# Altium footprint library Supernova Resistors.PcbLib: 45 footprints (part 1 of 3)
Each footprint in its own frame and in the unit in brackets; x right, y up, seen from the top. Pads: shape width x height; smd on the part's side, far side on the other; paste and mask are expansions set on the pad; w line width, h text height; cw(c..) or ccw(c..) is an arc to the next point about the centre after c.
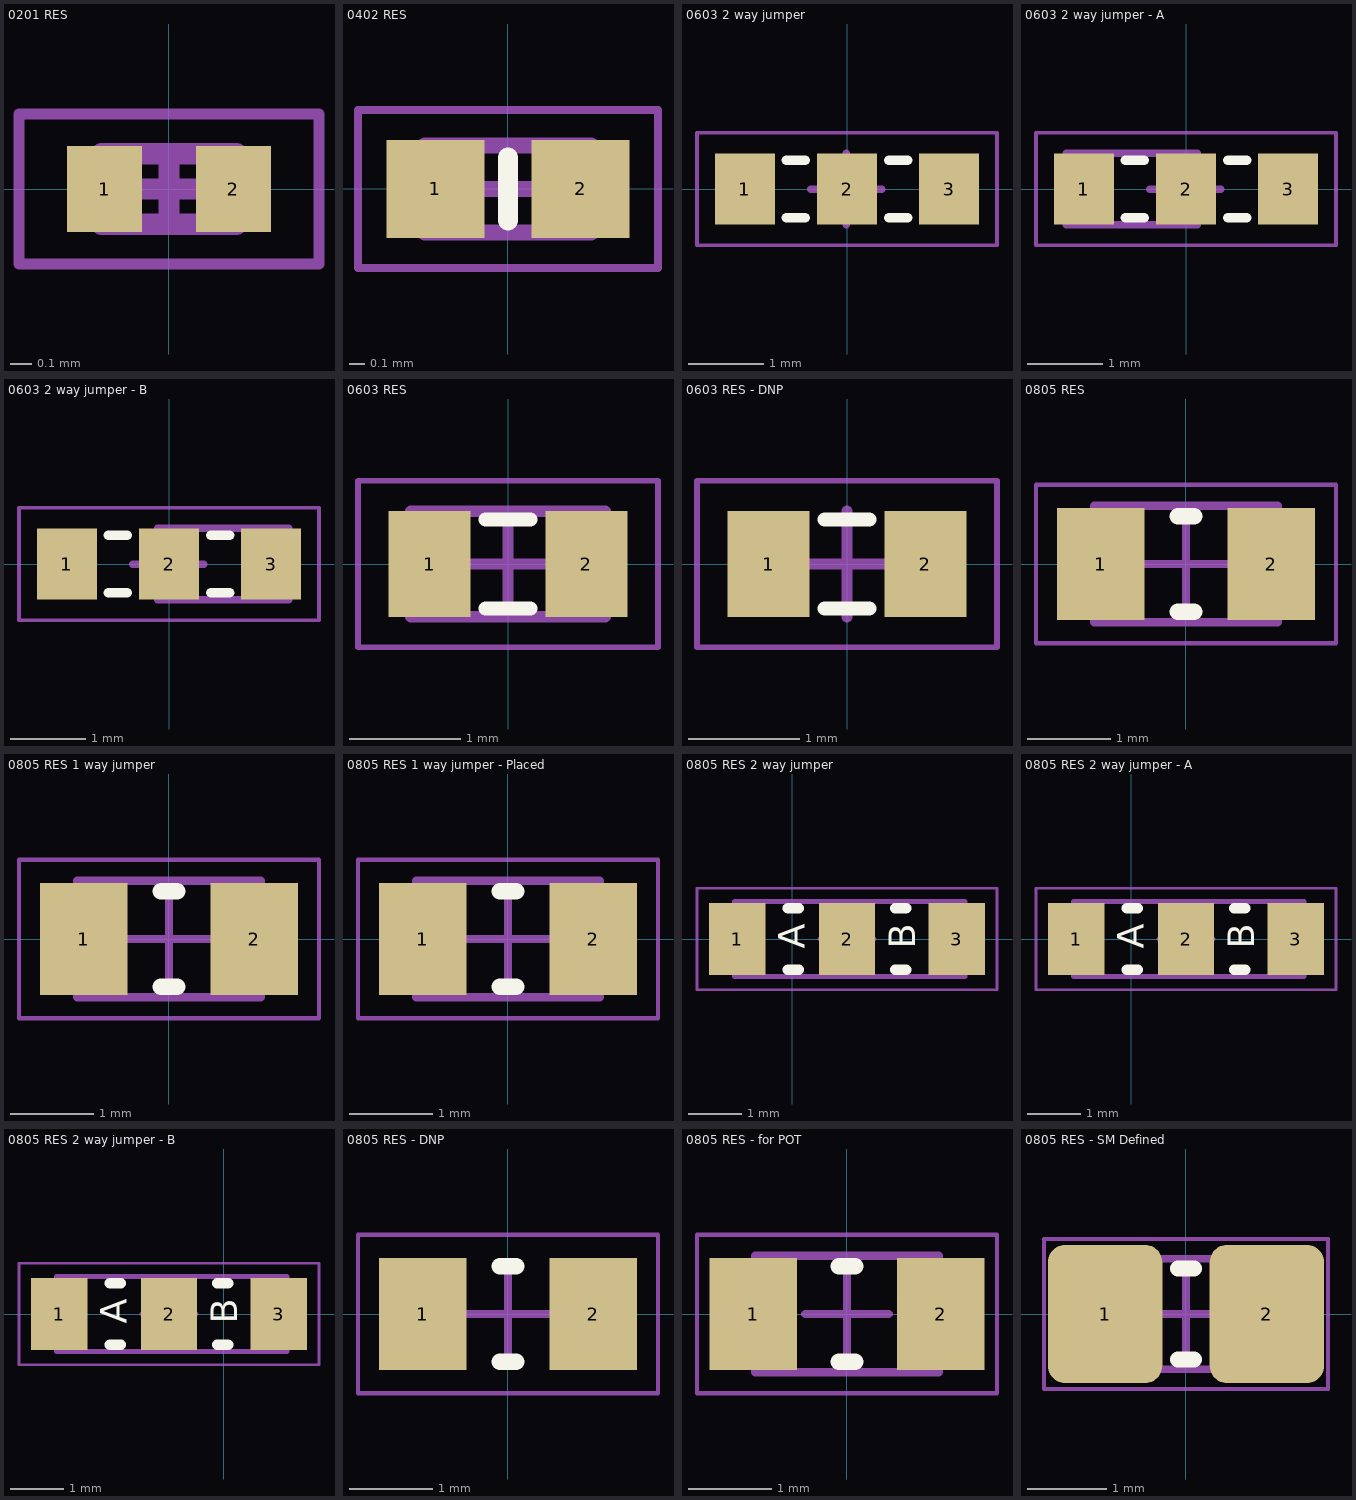
[diagram p0: the footprints below, top view; thin cyan lines are the x and y axes]

## 0201 RES [mm] "Chip Resistor, 2-Leads, Body 0.60x0.30mm, IPC Medium Density"
height 0.26
pads (2):
  rect 0.35x0.4 smd mask+0.025: 1(-0.3,0) 2(0.3,0)
Top 3D Body:
  lines w0.1: -0.315,-0.165 -0.315,0.165 0.315,0.165 0.315,-0.165 -0.315,-0.165
Top Courtyard (Mech15):
  lines w0.05: -0.7,-0.35 -0.7,0.35 0.7,0.35 0.7,-0.35 -0.7,-0.35
  lines w0.1: -0.165,0 0.165,0 ; 0,-0.165 0,0.165
3D body: height 0.26, standoff 0, extent -0.165,-0.165 0.165,0.165
3D body: height 0.26, standoff 0, extent -0.315,-0.165 -0.165,0.165
3D body: height 0.26, standoff 0, extent 0.165,-0.165 0.315,0.165

## 0402 RES [mm] "Chip Capacitor, 2-Leads, Body 1.00x0.50mm, IPC Medium Density"
height 0.55
pads (2):
  rect 0.62x0.62 smd mask+0.051: 1(-0.46,0) 2(0.46,0)
Top Overlay:
  lines w0.127: 0,-0.2 0,0.2
Top 3D Body:
  lines w0.1: -0.525,-0.275 -0.525,0.275 0.525,0.275 0.525,-0.275 -0.525,-0.275
Top Courtyard (Mech15):
  lines w0.05: -0.95,-0.5 -0.95,0.5 0.95,0.5 0.95,-0.5 -0.95,-0.5
  lines w0.1: -0.275,0 0.275,0 ; 0,-0.275 0,0.275
3D body: height 0.4, standoff 0, extent -0.525,-0.275 -0.295,0.275
3D body: height 0.4, standoff 0, extent 0.295,-0.275 0.525,0.275
3D body: height 0.4, standoff 0, extent -0.295,-0.275 0.295,0.275

## 0603 2 way jumper [mm] "Chip Resistor, 2-Leads, Body 1.60x0.85mm, IPC Medium Density"
height 0.55
pads (3):
  rect 0.8x0.95 smd paste-1: 1(-1.36,0) 2(0,0) 3(1.36,0)
Top Overlay:
  lines w0.127: -0.813,-0.381 -0.559,-0.381 ; -0.813,0.381 -0.559,0.381 ; 0.559,-0.381 0.813,-0.381 ; 0.559,0.381 0.813,0.381
Top Courtyard (Mech15):
  lines w0.05: -2,-0.75 2,-0.75 2,0.75 -2,0.75 -2,-0.75
  lines w0.1: -0.485,0 0.465,0 ; -0.01,-0.475 -0.01,0.475

## 0603 2 way jumper - A [mm] "Chip Resistor, 2-Leads, Body 1.60x0.85mm, IPC Medium Density"
height 0.55
pads (3):
  rect 0.8x0.95 smd: 1(-1.36,0) 2(0,0)
  rect 0.8x0.95 smd paste-1: 3(1.36,0)
Top Overlay:
  lines w0.127: -0.813,-0.381 -0.559,-0.381 ; -0.813,0.381 -0.559,0.381 ; 0.559,-0.381 0.813,-0.381 ; 0.559,0.381 0.813,0.381
Top 3D Body:
  lines w0.1: -1.6,-0.475 -1.6,0.475 0.15,0.475 0.15,-0.475 -1.6,-0.475
Top Courtyard (Mech15):
  lines w0.05: -2,-0.75 -2,0.75 2,0.75 2,-0.75 -2,-0.75
  lines w0.1: -0.485,0 0.465,0 ; -0.01,-0.475 -0.01,0.475
3D body: height 0.55, standoff 0, extent -1.3,-0.475 -0.15,0.475
3D body: height 0.55, standoff 0, extent -1.6,-0.475 -1.3,0.475
3D body: height 0.55, standoff 0, extent -0.15,-0.475 0.15,0.475

## 0603 2 way jumper - B [mm] "Chip Resistor, 2-Leads, Body 1.60x0.85mm, IPC Medium Density"
height 0.55
pads (3):
  rect 0.8x0.95 smd paste-1: 1(-1.36,0)
  rect 0.8x0.95 smd: 2(0,0) 3(1.36,0)
Top Overlay:
  lines w0.127: -0.813,-0.381 -0.559,-0.381 ; -0.813,0.381 -0.559,0.381 ; 0.559,-0.381 0.813,-0.381 ; 0.559,0.381 0.813,0.381
Top 3D Body:
  lines w0.1: -0.15,-0.475 1.6,-0.475 1.6,0.475 -0.15,0.475 -0.15,-0.475
Top Courtyard (Mech15):
  lines w0.05: -2,-0.75 -2,0.75 2,0.75 2,-0.75 -2,-0.75
  lines w0.1: -0.485,0 0.465,0 ; -0.01,-0.475 -0.01,0.475
3D body: height 0.55, standoff 0, extent -0.15,-0.475 0.15,0.475
3D body: height 0.55, standoff 0, extent 1.3,-0.475 1.6,0.475
3D body: height 0.55, standoff 0, extent 0.15,-0.475 1.3,0.475

## 0603 RES [mm] "Chip Resistor, 2-Leads, Body 1.60x0.85mm, IPC Medium Density"
height 0.55
pads (2):
  rect 0.739x0.95 smd mask+0.051: 1(-0.705,0) 2(0.705,0)
Top Overlay:
  lines w0.127: -0.2,-0.4 0.2,-0.4 ; -0.2,0.4 0.2,0.4
Top 3D Body:
  lines w0.1: -0.875,-0.475 -0.875,0.475 0.875,0.475 0.875,-0.475 -0.875,-0.475
Top Courtyard (Mech15):
  lines w0.05: -1.35,-0.75 -1.35,0.75 1.35,0.75 1.35,-0.75 -1.35,-0.75
  lines w0.1: -0.475,0 0.475,0 ; 0,-0.475 0,0.475
3D body: height 0.55, standoff 0, extent -0.575,-0.475 0.575,0.475
3D body: height 0.55, standoff 0, extent -0.875,-0.475 -0.575,0.475
3D body: height 0.55, standoff 0, extent 0.575,-0.475 0.875,0.475

## 0603 RES - DNP [mm] "Chip Resistor, 2-Leads, Body 1.60x0.85mm, IPC Medium Density"
height 0.55
pads (2):
  rect 0.739x0.95 smd paste-2 mask+0.051: 1(-0.705,0) 2(0.705,0)
Top Overlay:
  lines w0.127: -0.2,-0.4 0.2,-0.4 ; -0.2,0.4 0.2,0.4
Top Courtyard (Mech15):
  lines w0.05: -1.35,-0.75 -1.35,0.75 1.35,0.75 1.35,-0.75 -1.35,-0.75
  lines w0.1: -0.475,0 0.475,0 ; 0,-0.475 0,0.475

## 0805 RES [mm] "Chip Resistor, 2-Leads, Body 2.05x1.25mm, IPC Medium Density"
height 0.5
pads (2):
  rect 1.05x1.35 smd: 1(-1.025,0) 2(1.025,0)
Top Overlay:
  lines w0.2: -0.1,-0.575 0.1,-0.575 ; -0.1,0.575 0.1,0.575
Top 3D Body:
  lines w0.1: -1.1,-0.7 -1.1,0.7 1.1,0.7 1.1,-0.7 -1.1,-0.7
Top Courtyard (Mech15):
  lines w0.05: -1.8,-0.95 -1.8,0.95 1.8,0.95 1.8,-0.95 -1.8,-0.95
  lines w0.1: -0.5,0 0.5,0 ; 0,-0.5 0,0.5
3D body: height 0.5, standoff 0, extent -0.75,-0.7 0.75,0.7
3D body: height 0.5, standoff 0, extent -1.1,-0.7 -0.75,0.7
3D body: height 0.5, standoff 0, extent 0.75,-0.7 1.1,0.7

## 0805 RES 1 way jumper [mm] "Chip Resistor, 2-Leads, Body 2.05x1.25mm, IPC Medium Density"
height 0.5
pads (2):
  rect 1.05x1.35 smd paste-2: 1(-1.025,0) 2(1.025,0)
Top Overlay:
  lines w0.2: -0.1,-0.575 0.1,-0.575 ; -0.1,0.575 0.1,0.575
Top 3D Body:
  lines w0.1: -1.1,-0.7 -1.1,0.7 1.1,0.7 1.1,-0.7 -1.1,-0.7
Top Courtyard (Mech15):
  lines w0.05: -1.8,-0.95 -1.8,0.95 1.8,0.95 1.8,-0.95 -1.8,-0.95
  lines w0.1: -0.5,0 0.5,0 ; 0,-0.5 0,0.5

## 0805 RES 1 way jumper - Placed [mm] "Chip Resistor, 2-Leads, Body 2.05x1.25mm, IPC Medium Density"
height 0.5
pads (2):
  rect 1.05x1.35 smd: 1(-1.025,0) 2(1.025,0)
Top Overlay:
  lines w0.2: -0.1,-0.575 0.1,-0.575 ; -0.1,0.575 0.1,0.575
Top 3D Body:
  lines w0.1: -1.1,-0.7 -1.1,0.7 ; -1.1,-0.7 1.1,-0.7 ; -1.1,-0.7 1.1,-0.7 ; -1.1,-0.7 -1.1,0.7 ; -1.1,0.7 1.1,0.7 ; -1.1,0.7 1.1,0.7 ; 1.1,-0.7 1.1,0.7 ; 1.1,-0.7 1.1,0.7
Top Courtyard (Mech15):
  lines w0.05: -1.8,-0.95 1.8,-0.95 1.8,0.95 -1.8,0.95 -1.8,-0.95
  lines w0.1: -0.5,0 0.5,0 ; 0,-0.5 0,0.5
3D body: height 0.5, standoff 0, extent -0.75,-0.7 0.75,0.7
3D body: height 0.5, standoff 0, extent -1.1,-0.7 -0.75,0.7
3D body: height 0.5, standoff 0, extent 0.75,-0.7 1.1,0.7

## 0805 RES 2 way jumper [mm] "Chip Resistor, 2-Leads, Body 2.05x1.25mm, IPC Medium Density"
height 0.5
pads (3):
  rect 1.05x1.35 smd paste-2: 1(-1.025,0) 2(1.025,0) 3(3.075,0)
Top Overlay:
  lines w0.2: -0.075,-0.575 0.125,-0.575 ; -0.075,0.575 0.125,0.575 ; 1.925,-0.575 2.125,-0.575 ; 1.925,0.575 2.125,0.575
  text "B" at 2.295,-0.178 h0.5
  text "A" at 0.238,-0.178 h0.5
Top 3D Body:
  lines w0.1: -1.075,-0.7 3.225,-0.7 3.225,0.7 -1.075,0.7 -1.075,-0.7
Top Courtyard (Mech15):
  lines w0.05: -1.775,-0.95 3.825,-0.95 3.825,0.95 -1.775,0.95 -1.775,-0.95
  lines w0.1: 0.525,0 1.525,0 ; 1.025,-0.5 1.025,0.5

## 0805 RES 2 way jumper - A [mm] "Chip Resistor, 2-Leads, Body 2.05x1.25mm, IPC Medium Density"
height 0.5
pads (3):
  rect 1.05x1.35 smd: 1(-1.025,0) 2(1.025,0)
  rect 1.05x1.35 smd paste-1: 3(3.075,0)
Top Overlay:
  lines w0.2: -0.075,-0.575 0.125,-0.575 ; -0.075,0.575 0.125,0.575 ; 1.925,-0.575 2.125,-0.575 ; 1.925,0.575 2.125,0.575
  text "A" at 0.238,-0.178 h0.5
  text "B" at 2.295,-0.178 h0.5
Top 3D Body:
  lines w0.1: -1.075,-0.7 -1.075,0.7 ; -1.075,-0.7 3.225,-0.7 3.225,0.7 -1.075,0.7 ; -1.075,-0.7 1.125,-0.7 1.125,0.7 -1.075,0.7 ; -1.075,-0.7 -1.075,0.7
Top Courtyard (Mech15):
  lines w0.05: -1.775,-0.95 -1.775,0.95 3.825,0.95 3.825,-0.95 -1.775,-0.95
  lines w0.1: 0.525,0 1.525,0 ; 1.025,-0.5 1.025,0.5
3D body: height 0.5, standoff 0, extent 0.775,-0.7 1.125,0.7
3D body: height 0.5, standoff 0, extent -1.075,-0.7 -0.725,0.7
3D body: height 0.5, standoff 0, extent -0.725,-0.7 0.775,0.7

## 0805 RES 2 way jumper - B [mm] "Chip Resistor, 2-Leads, Body 2.05x1.25mm, IPC Medium Density"
height 0.5
pads (3):
  rect 1.05x1.35 smd paste-1: 1(-3.075,0)
  rect 1.05x1.35 smd: 2(-1.025,0) 3(1.025,0)
Top Overlay:
  lines w0.2: -2.125,-0.575 -1.925,-0.575 ; -2.125,0.575 -1.925,0.575 ; -0.125,-0.575 0.075,-0.575 ; -0.125,0.575 0.075,0.575
  text "A" at -1.812,-0.178 h0.5
  text "B" at 0.245,-0.178 h0.5
Top 3D Body:
  lines w0.1: -3.125,-0.7 -3.125,0.7 1.175,0.7 1.175,-0.7 -3.125,-0.7 ; -1.125,-0.7 -1.125,0.7 1.075,0.7 1.075,-0.7 -1.125,-0.7
Top Courtyard (Mech15):
  lines w0.05: -3.825,-0.95 -3.825,0.95 1.775,0.95 1.775,-0.95 -3.825,-0.95
  lines w0.1: -1.525,0 -0.525,0 ; -1.025,-0.5 -1.025,0.5
3D body: height 0.5, standoff 0, extent -0.775,-0.7 0.725,0.7
3D body: height 0.5, standoff 0, extent -1.125,-0.7 -0.775,0.7
3D body: height 0.5, standoff 0, extent 0.725,-0.7 1.075,0.7

## 0805 RES - DNP [mm] "Chip Resistor, 2-Leads, Body 2.05x1.25mm, IPC Medium Density"
height 0.5
pads (2):
  rect 1.05x1.35 smd paste-2: 1(-1.025,0) 2(1.025,0)
Top Overlay:
  lines w0.2: -0.1,-0.575 0.1,-0.575 ; -0.1,0.575 0.1,0.575
Top Courtyard (Mech15):
  lines w0.05: -1.8,-0.95 1.8,-0.95 1.8,0.95 -1.8,0.95 -1.8,-0.95
  lines w0.1: -0.5,0 0.5,0 ; 0,-0.5 0,0.5

## 0805 RES - for POT [mm] "Chip Resistor, 2-Leads, Body 2.05x1.25mm, IPC Medium Density"
height 0.5
pads (2):
  rect 1.05x1.35 smd: 1(-1.125,0) 2(1.125,0)
Top Overlay:
  lines w0.2: -0.1,-0.575 0.1,-0.575 ; -0.1,0.575 0.1,0.575
Top 3D Body:
  lines w0.1: -1.1,-0.7 1.1,-0.7 1.1,0.7 -1.1,0.7 -1.1,-0.7
Top Courtyard (Mech15):
  lines w0.05: -1.8,-0.95 1.8,-0.95 1.8,0.95 -1.8,0.95 -1.8,-0.95
  lines w0.1: -0.5,0 0.5,0 ; 0,-0.5 0,0.5
3D body: height 0.5, standoff 0, extent 0.75,-0.7 1.1,0.7
3D body: height 0.5, standoff 0, extent -1.1,-0.7 -0.75,0.7
3D body: height 0.5, standoff 0, extent -0.75,-0.7 0.75,0.7

## 0805 RES - SM Defined [mm] "Chip Resistor, 2-Leads, Body 2.05x1.25mm, IPC Medium Density"
height 0.5
pads (2):
  rrect30% 1.45x1.75 smd paste-0.2 mask-0.2: 1(-1.025,0) 2(1.025,0)
Top Overlay:
  lines w0.2: -0.1,-0.575 0.1,-0.575 ; -0.1,0.575 0.1,0.575
Top 3D Body:
  lines w0.1: -1.1,-0.7 -1.1,0.7 1.1,0.7 1.1,-0.7 -1.1,-0.7
Top Courtyard (Mech15):
  lines w0.05: -1.8,-0.95 -1.8,0.95 1.8,0.95 1.8,-0.95 -1.8,-0.95
  lines w0.1: -0.5,0 0.5,0 ; 0,-0.5 0,0.5
3D body: height 0.5, standoff 0, extent -0.75,-0.7 0.75,0.7
3D body: height 0.5, standoff 0, extent -1.1,-0.7 -0.75,0.7
3D body: height 0.5, standoff 0, extent 0.75,-0.7 1.1,0.7